# Altium footprint library Molex.PcbLib: 30 footprints (part 1 of 2)
Each footprint in its own frame and in the unit in brackets; x right, y up, seen from the top. Pads: shape width x height; smd on the part's side, far side on the other; paste and mask are expansions set on the pad; w line width, h text height; cw(c..) or ccw(c..) is an arc to the next point about the centre after c.
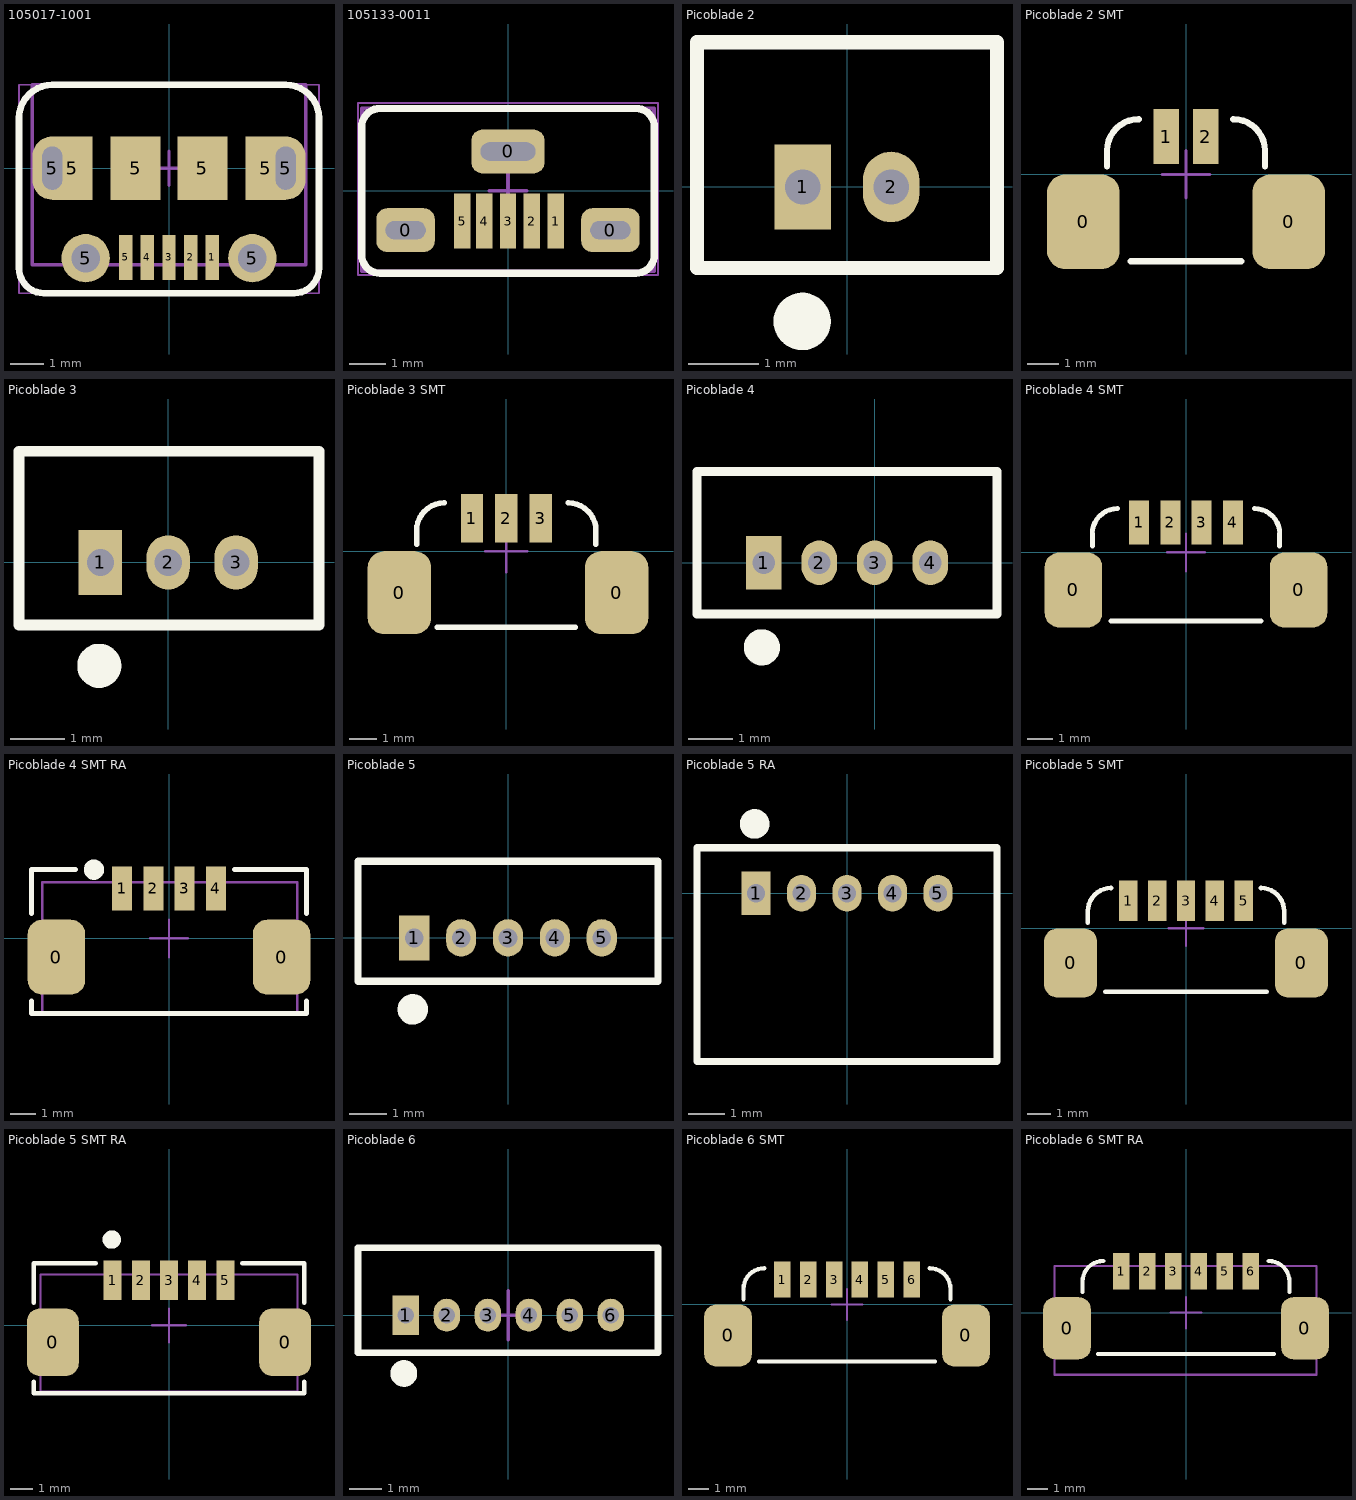
[diagram p0: the footprints below, top view; thin cyan lines are the x and y axes]

## 105017-1001 [mm] "USB Receptable, Type B, Micro, Horizontal, SMD"
pads (13):
  rect 0.4x1.35 smd: 1(1.3,-2.675) 2(0.65,-2.675) 3(0,-2.675) 4(-0.65,-2.675) 5(-1.3,-2.675)
  oval 1.2x1.9 hole 0.6 slot 1.3 at 90 deg: 5(-3.5,0) 5(3.5,0)
  rect 1.2x1.9 smd: 5(-2.9,0) 5(2.9,0)
  round 1.45 hole 0.85: 5(-2.5,-2.7) 5(2.5,-2.7)
  rect 1.5x1.9 smd: 5(-1,0) 5(1,0)
Top Overlay:
  lines w0.2: -4.5,1.25 -4.5,1.5 ; -4.5,1.5 cw(c-3.5,1.5) -3.5,2.5 3.5,2.5 cw(c3.5,1.5) 4.5,1.5 4.5,-3 cw(c3.75,-3) 3.75,-3.75 -3.75,-3.75 cw(c-3.75,-3) -4.5,-3 -4.5,1.5
Mechanical 13:
  lines w0.1: -4.1,-2.9 -4.1,2.5 4.1,2.5 4.1,-2.9 -4.1,-2.9
Mechanical 15:
  lines w0.05: -4.5,-3.75 -4.5,2.5 4.5,2.5 4.5,-3.75 -4.5,-3.75
  lines w0.1: -0.508,0 0.508,0 ; 0,-0.508 0,0.508
3D body "1050170001.stp": height 2.7, standoff -0.6, extent -4.1,-2.9 4.1,2.5

## 105133-0011 [mm] "USB Receptable, Type B, Micro, Vertical, SMD"
pads (8):
  rrect50% 1.6x1.2 hole 0.5 slot 1.1 at 0 deg: 0(-2.8,-1.075) 0(2.8,-1.075)
  rrect50% 2x1.2 hole 0.5 slot 1.5 at 0 deg: 0(0,1.075)
  rect 0.45x1.5 smd: 1(1.3,-0.825) 2(0.65,-0.825) 3(0,-0.825) 4(-0.65,-0.825) 5(-1.25,-0.825)
Top Overlay:
  lines w0.2: -4,-1.75 ccw(c-3.5,-1.75) -3.5,-2.25 3.5,-2.25 ccw(c3.5,-1.75) 4,-1.75 4,1.75 ccw(c3.5,1.75) 3.5,2.25 -3.5,2.25 ccw(c-3.5,1.75) -4,1.75 -4,-1.75
Mechanical 13:
  lines w0.1: -3.99,-2.2 3.99,-2.2 3.99,2.25 -3.99,2.25 -3.99,-2.2
Mechanical 15:
  lines w0.05: -4.1,-2.3 -4.1,2.4 4.1,2.4 4.1,-2.3 -4.1,-2.3
  lines w0.1: -0.508,0 0.508,0 ; 0,-0.508 0,0.508
3D body "1051330011.stp": height 7.43, standoff -2.37, extent -4,-2.2 4.025,2.25

## Picoblade 2 [mm]
pads (2):
  rect 0.8x1.2 hole 0.5: 1(-0.625,0)
  oval 0.8x1 hole 0.5: 2(0.625,0)
Top Overlay:
  circle w0.406: c-0.635,-1.905 r0.203
  lines w0.2: -2.125,-1.15 2.125,-1.15 2.125,2.05 -2.125,2.05 -2.125,-1.15
3D body "530470210.stp": height 4.25, standoff -2.25, extent -2.125,-1.15 2.125,2.05

## Picoblade 2 SMT [mm]
pads (4):
  rrect50% 2.3x3 smd: 0(-3.25,-1.5) 0(3.25,-1.5)
  rect 0.8x1.75 smd: 1(-0.625,1.2) 2(0.625,1.2)
Top Overlay:
  lines w0.2: -2.5,0.25 -2.5,0.75 cw(c-1.5,0.75) -1.5,1.75 ; -1.75,-2.75 1.75,-2.75 ; 1.5,1.75 cw(c1.5,0.75) 2.5,0.75 2.5,0.25
Mechanical 15:
  lines w0.1: -0.75,0 0.75,0 ; 0,-0.75 0,0.75
3D body "533980271.stp": height 4.72, standoff -0.02, extent -3.825,-2.6 3.825,1.6
3D body: height 25.6, standoff -1.59, extent 0.7,-1.8 0.7,-1.8
3D body: height 25.6, standoff -1.59, extent 0.7,-1.8 0.7,-1.8

## Picoblade 3 [mm]
pads (3):
  rect 0.8x1.2 hole 0.5: 1(-1.25,0)
  oval 0.8x1 hole 0.5: 2(0,0) 3(1.25,0)
Top Overlay:
  circle w0.406: c-1.27,-1.905 r0.203
  lines w0.2: -2.75,-1.15 -2.75,2.05 2.778,2.05 2.778,-1.15 -2.75,-1.15
3D body "530470310.stp": height 4.2, standoff -2.3, extent -2.746,-1.15 2.754,2.05

## Picoblade 3 SMT [mm]
pads (5):
  rrect50% 2.3x3 smd: 0(-3.875,-1.5) 0(4,-1.5)
  rect 0.8x1.75 smd: 1(-1.25,1.2) 2(0,1.2) 3(1.25,1.2)
Top Overlay:
  lines w0.2: -3.25,0.25 -3.25,0.75 cw(c-2.25,0.75) -2.25,1.75 ; -2.5,-2.75 2.5,-2.75 ; 2.25,1.75 cw(c2.25,0.75) 3.25,0.75 3.25,0.25
Mechanical 15:
  lines w0.1: -0.75,0 0.75,0 ; 0,-0.75 0,0.75
3D body "533980371.stp": height 4.72, standoff -0.02, extent -4.45,-2.6 4.45,1.6
3D body: height 25.6, standoff -1.59, extent 0.075,-1.8 0.075,-1.8
3D body: height 25.6, standoff -1.59, extent 0.075,-1.8 0.075,-1.8

## Picoblade 4 [mm]
pads (4):
  rect 0.8x1.2 hole 0.5: 1(-2.5,0)
  oval 0.8x1 hole 0.5: 2(-1.25,0) 3(0,0) 4(1.25,0)
Top Overlay:
  circle w0.406: c-2.54,-1.905 r0.203
  lines w0.2: -4,-1.15 2.75,-1.15 2.75,2.05 -4,2.05 -4,-1.15
3D body "530470410.stp": height 4.2, standoff -2.3, extent -4,-1.15 2.75,2.05

## Picoblade 4 SMT [mm]
pads (6):
  rrect50% 2.3x3 smd: 0(-4.5,-1.5) 0(4.5,-1.5)
  rect 0.8x1.75 smd: 1(-1.875,1.2) 2(-0.625,1.2) 3(0.625,1.2) 4(1.875,1.2)
Top Overlay:
  lines w0.2: -3.75,0.25 -3.75,0.75 cw(c-2.75,0.75) -2.75,1.75 ; -3,-2.75 3,-2.75 ; 2.75,1.75 cw(c2.75,0.75) 3.75,0.75 3.75,0.25
Mechanical 15:
  lines w0.1: -0.75,0 0.75,0 ; 0,-0.75 0,0.75
3D body: height 25.6, standoff -1.59, extent 0.7,-1.8 0.7,-1.8
3D body: height 25.6, standoff -1.59, extent 0.7,-1.8 0.7,-1.8
3D body "533980471.stp": height 4.67, standoff -0.07, extent -5.075,-2.85 5.075,1.35

## Picoblade 4 SMT RA [mm]
pads (6):
  rrect50% 2.3x3 smd: 0(-4.5,-0.75) 0(4.5,-0.75)
  rect 0.8x1.75 smd: 1(-1.875,2) 2(-0.625,2) 3(0.625,2) 4(1.875,2)
Top Overlay:
  circle w0.406: c-3,2.75 r0.203
  lines w0.2: -5.5,-2.5 -5.5,-3 5.5,-3 5.5,-2.5 ; -5.5,1 -5.5,2.75 -3.75,2.75 ; 2.625,2.75 5.5,2.75 5.5,1
Mechanical 13:
  lines w0.1: -5.075,-2.95 5.125,-2.95 5.125,2.25 -5.075,2.25 -5.075,-2.95
Mechanical 15:
  lines w0.1: -0.75,0 0.75,0 ; 0,-0.75 0,0.75
3D body "532610471.stp": height 3.4, standoff 0, extent -5.05,-2.975 5.1,2.225

## Picoblade 5 [mm]
pads (5):
  rect 0.8x1.2 hole 0.5: 1(-2.5,0)
  oval 0.8x1 hole 0.5: 2(-1.25,0) 3(0,0) 4(1.25,0) 5(2.5,0)
Top Overlay:
  circle w0.406: c-2.54,-1.905 r0.203
  lines w0.2: -4,-1.15 4,-1.15 4,2.05 -4,2.05 -4,-1.15
3D body "530470510.stp": height 4.3, standoff -2.2, extent -4,-1.15 4,2.05

## Picoblade 5 RA [mm]
pads (5):
  rect 0.8x1.2 hole 0.5: 1(-2.5,0)
  oval 0.8x1 hole 0.5: 2(-1.25,0) 3(0,0) 4(1.25,0) 5(2.5,0)
Top Overlay:
  circle w0.406: c-2.54,1.905 r0.203
  lines w0.2: -4.125,-4.625 4.125,-4.625 4.125,1.25 -4.125,1.25 -4.125,-4.625
3D body "530480510.stp": height 3.65, standoff -2.15, extent -4,-4.45 4,1.05

## Picoblade 5 SMT [mm]
pads (7):
  rrect50% 2.3x3 smd: 0(-5,-1.5) 0(5,-1.5)
  rect 0.8x1.75 smd: 1(-2.5,1.2) 2(-1.25,1.2) 3(0,1.2) 4(1.25,1.2) 5(2.5,1.2)
Top Overlay:
  lines w0.2: -4.25,0.25 -4.25,0.75 cw(c-3.25,0.75) -3.25,1.75 ; -3.5,-2.75 3.5,-2.75 ; 3.25,1.75 cw(c3.25,0.75) 4.25,0.75 4.25,0.25
Mechanical 15:
  lines w0.1: -0.75,0 0.75,0 ; 0,-0.75 0,0.75
3D body "533980571.stp": height 4.65, standoff -0.05, extent -5.725,-2.75 5.675,1.45

## Picoblade 5 SMT RA [mm]
pads (7):
  rrect50% 2.3x3 smd: 0(-5.15,-0.75) 0(5.15,-0.75)
  rect 0.8x1.75 smd: 1(-2.5,2) 2(-1.25,2) 3(0,2) 4(1.25,2) 5(2.5,2)
Top Overlay:
  circle w0.406: c-2.54,3.802 r0.203
  lines w0.2: -6,-2.5 -6,-3 6,-3 6,-2.5 ; -6,1 -6,2.75 -3.25,2.75 ; 3.25,2.75 6,2.75 6,1
Mechanical 13:
  lines w0.1: -5.7,-2.95 5.7,-2.95 5.7,2.25 -5.7,2.25 -5.7,-2.95
Mechanical 15:
  lines w0.1: -0.75,0 0.75,0 ; 0,-0.75 0,0.75
3D body "532610571.stp": height 3.4, standoff 0, extent -5.7,-2.95 5.7,2.25

## Picoblade 6 [mm]
pads (6):
  rect 0.8x1.2 hole 0.5: 1(-3.125,0)
  oval 0.8x1 hole 0.5: 2(-1.875,0) 3(-0.625,0) 4(0.625,0) 5(1.875,0) 6(3.125,0)
Top Overlay:
  circle w0.406: c-3.185,-1.778 r0.203
  lines w0.2: -4.582,-1.15 4.562,-1.15 4.562,2.05 -4.582,2.05 -4.582,-1.15
Mechanical 15:
  lines w0.1: -0.625,0 0.625,0 ; 0,-0.75 0,0.75
3D body "530470610.stp": height 4.2, standoff -2.3, extent -4.635,-1.15 4.615,2.05

## Picoblade 6 SMT [mm]
pads (8):
  rrect50% 2.3x3 smd: 0(-5.75,-1.5) 0(5.75,-1.5)
  rect 0.8x1.75 smd: 1(-3.125,1.2) 2(-1.875,1.2) 3(-0.625,1.2) 4(0.625,1.2) 5(1.875,1.2) 6(3.125,1.2)
Top Overlay:
  lines w0.2: -5,0.25 -5,0.75 cw(c-4,0.75) -4,1.75 ; -4.25,-2.75 4.25,-2.75 ; 4,1.75 cw(c4,0.75) 5,0.75 5,0.25
Mechanical 15:
  lines w0.1: -0.75,0 0.75,0 ; 0,-0.75 0,0.75
3D body "533980671.stp": height 4.67, standoff -0.07, extent -6.325,-2.6 6.325,1.6

## Picoblade 6 SMT RA [mm]
pads (8):
  rrect50% 2.3x3 smd: 0(-5.75,-0.75) 0(5.75,-0.75)
  rect 0.8x1.75 smd: 1(-3.125,2) 2(-1.875,2) 3(-0.625,2) 4(0.625,2) 5(1.875,2) 6(3.125,2)
Top Overlay:
  lines w0.2: -5,1 -5,1.5 cw(c-4,1.5) -4,2.5 ; -4.25,-2 4.25,-2 ; 4,2.5 cw(c4,1.5) 5,1.5 5,1
Mechanical 13:
  lines w0.1: -6.35,-3 -6.35,2.25 6.3,2.25 6.3,-3 -6.35,-3
Mechanical 15:
  lines w0.1: -0.75,0 0.75,0 ; 0,-0.75 0,0.75
3D body "532610671.stp": height 3.4, standoff 0, extent -6.35,-2.975 6.3,2.225